# EAGLE library part MCP2515-18P (library Arlinked)
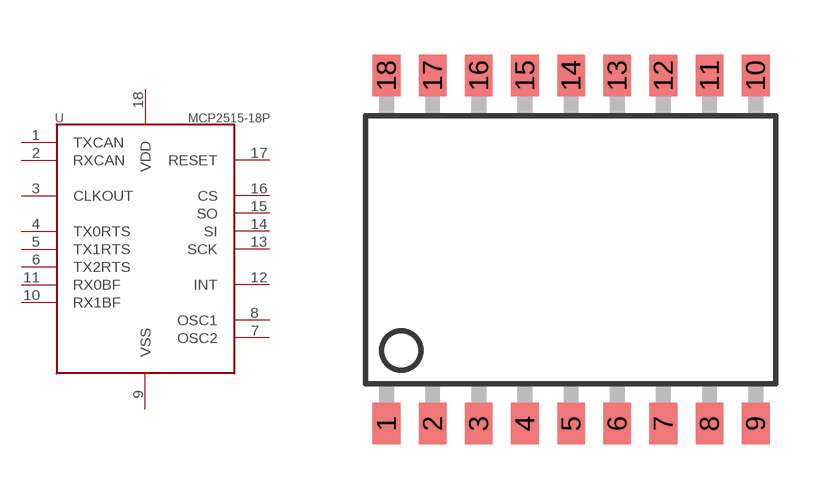
[diagram p3: symbol with the pads of SOIC18-W; footprint SOIC18-W]

Designator prefix -

## MCP2515-18P  [SOIC18-W]
1  TXCAN
2  RXCAN
3  CLKOUT
4  TX0RTS
5  TX1RTS
6  TX2RTS
7  OSC2
8  OSC1
9  VSS  pwr
10  RX1BF
11  RX0BF
12  INT
13  SCK
14  SI
15  SO
16  CS
17  RESET
18  VDD  pwr

## Footprint SOIC18-W (pad centres in mm)
smd 0.762 x 1.143: 1 -5.08,-4.788; 2 -3.81,-4.788; 3 -2.54,-4.788; 4 -1.27,-4.788; 5 0,-4.788; 6 1.27,-4.788; 7 2.54,-4.788; 8 3.81,-4.788; 9 5.08,-4.788; 10 5.08,4.788; 11 3.81,4.788; 12 2.54,4.788; 13 1.27,4.788; 14 0,4.788; 15 -1.27,4.788; 16 -2.54,4.788; 17 -3.81,4.788; 18 -5.08,4.788